# Altium footprint library PcbLib.PcbLib: 28 footprints (part 1 of 2)
Each footprint in its own frame and in the unit in brackets; x right, y up, seen from the top. Pads: shape width x height; smd on the part's side, far side on the other; paste and mask are expansions set on the pad; w line width, h text height; cw(c..) or ccw(c..) is an arc to the next point about the centre after c.
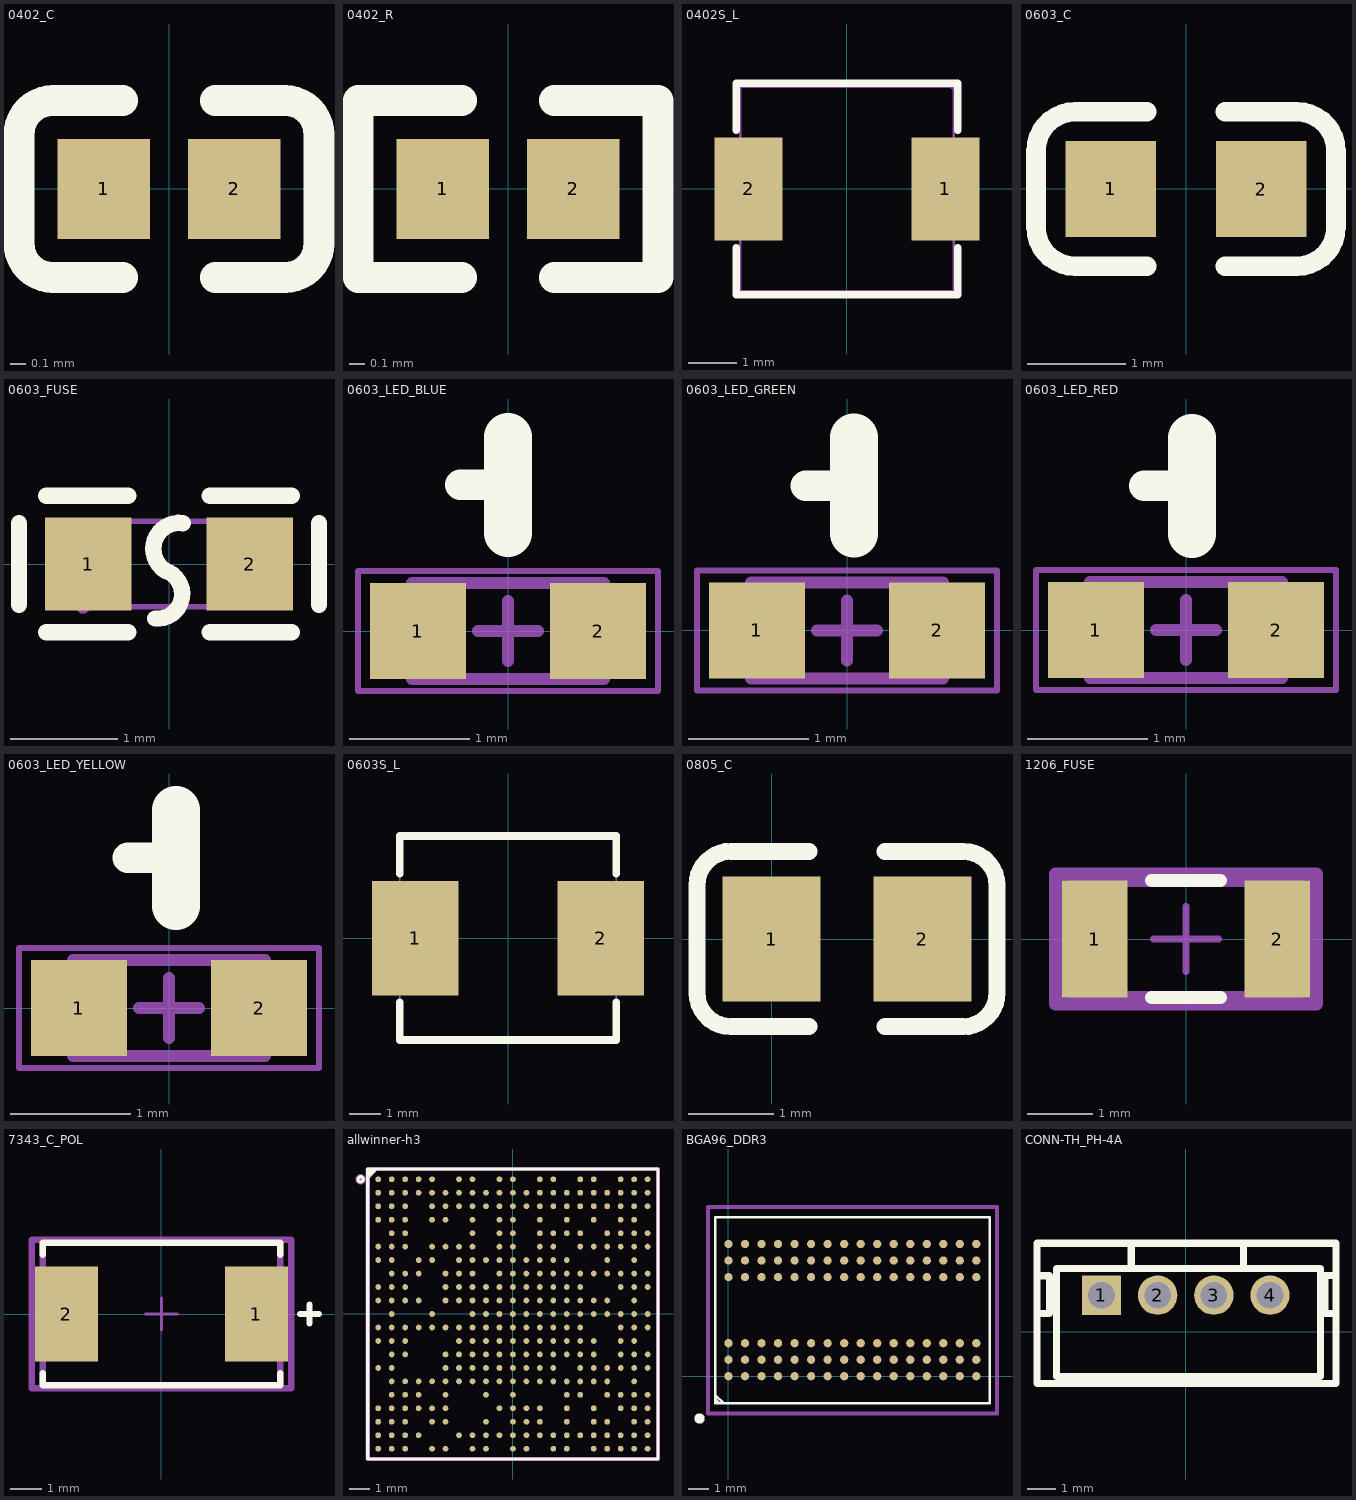
[diagram p0: the footprints below, top view; thin cyan lines are the x and y axes]

## 0402_C [mm]
pads (2):
  rect 0.6x0.65 smd mask+0.051: 1(-0.425,0) 2(0.425,0)
Top Overlay:
  lines w0.2: -0.755,-0.575 cw(c-0.755,-0.355) -0.975,-0.355 -0.975,0.355 cw(c-0.755,0.355) -0.755,0.575 ; -0.75,-0.575 -0.3,-0.575 ; -0.75,0.575 -0.3,0.575 ; 0.3,-0.575 0.75,-0.575 ; 0.3,0.575 0.75,0.575 ; 0.755,-0.575 ccw(c0.755,-0.355) 0.975,-0.355 0.975,0.355 ccw(c0.755,0.355) 0.755,0.575
3D body "capacitor-smd-0402.step": height 0.2, standoff 0, extent -0.483,-0.3 0.517,0.3

## 0402_R [mm]
pads (2):
  rect 0.6x0.65 smd mask+0.051: 1(-0.425,0) 2(0.425,0)
Top Overlay:
  lines w0.2: -0.3,-0.575 -0.975,-0.575 -0.975,0.575 -0.3,0.575 ; 0.3,-0.575 0.975,-0.575 0.975,0.575 0.3,0.575
3D body "resistor-smd-0402.step": height 0.41, standoff 0, extent -0.575,-0.275 0.575,0.275

## 0402S_L [mil]
pads (2):
  rect 55.1x83.5 smd mask+2: 1(79.8,0) 2(-79.8,0)
Top Overlay:
  lines w6: -89.6,-47.7 -89.6,-85.7 89.6,-85.7 89.6,-47.7 ; -89.6,47.7 -89.6,85.7 89.6,85.7 89.6,47.7
Mechanical 15:
  region: 89,82.7 89,83.69 87.59,85.1 85.61,85.1 84.2,83.69 84.2,82.7 84.2,81.71 85.61,80.3 87.59,80.3 89,81.71
  region: -86.6,-33.5 -86.6,33.5 -55.1,33.5 -55.1,-33.5
  region: 86.6,-33.5 86.6,33.5 55.1,33.5 55.1,-33.5
  lines w2: -86.6,-82.7 -86.6,82.7 86.6,82.7 86.6,-82.7 -86.6,-82.7

## 0603_C [mm]
pads (2):
  rect 0.93x0.98 smd: 1(-0.77,0) 2(0.77,0)
Top Overlay:
  lines w0.2: -0.4,-0.79 -1.135,-0.79 cw(c-1.135,-0.39) -1.535,-0.39 -1.535,0.39 cw(c-1.135,0.39) -1.135,0.79 -0.4,0.79 ; 0.4,-0.79 1.135,-0.79 ccw(c1.135,-0.39) 1.535,-0.39 1.535,0.39 ccw(c1.135,0.39) 1.135,0.79 0.4,0.79
3D body "capacitor-smd-0603.step": height 0.3, standoff 0, extent -0.8,-0.4 0.8,0.4

## 0603_FUSE [mm]
pads (2):
  rect 0.806x0.864 smd mask+0.051: 1(-0.753,0) 2(0.753,0)
Top Overlay:
  lines w0.152: -1.397,-0.381 -1.397,0.381 ; -1.143,-0.635 -0.381,-0.635 ; -1.143,0.635 -0.381,0.635 ; -0.127,-0.508 ccw(c-0.107,-0.28) -0.031,-0.063 ; -0.032,-0.064 cw(c0.096,0.142) 0.127,0.381 ; 0.381,-0.635 1.143,-0.635 ; 0.381,0.635 1.143,0.635 ; 1.397,-0.381 1.397,0.381
Top Paste:
  region: -0.315,-0.138 -0.315,0.138 -0.589,0.432 -1.092,0.432 -1.156,0.368 -1.156,-0.368 -1.092,-0.432 -0.589,-0.432
  region: 0.315,-0.138 0.315,0.138 0.589,0.432 1.092,0.432 1.156,0.368 1.156,-0.368 1.092,-0.432 0.589,-0.432
Mechanical 15:
  region: 0.8,-0.4 0.8,0.4 0.5,0.4 0.5,-0.4
  region: -0.8,-0.4 -0.8,0.4 -0.5,0.4 -0.5,-0.4
  region: -0.74,-0.4 -0.74,-0.375 -0.775,-0.34 -0.825,-0.34 -0.86,-0.375 -0.86,-0.4 -0.86,-0.425 -0.825,-0.46 -0.775,-0.46 -0.74,-0.425
  lines w0.051: -0.8,-0.4 0.8,-0.4 0.8,0.4 -0.8,0.4 -0.8,-0.4

## 0603_LED_BLUE [mm] "BLUE,RED,SMD, 2-Leads, Body 1.6x0.8mm"
height 0.85
pads (2):
  rect 0.8x0.8 smd: 1(-0.75,0) 2(0.75,0)
Top Overlay:
  lines w0.254: -0.4,1.221 0,1.221
  lines w0.4: 0,0.821 0,1.621
Mechanical 13:
  lines w0.1: -0.8,-0.4 0.8,-0.4 0.8,0.4 -0.8,0.4 -0.8,-0.4
Mechanical 15:
  lines w0.05: -1.25,-0.5 1.25,-0.5 1.25,0.5 -1.25,0.5 -1.25,-0.5
  lines w0.1: -0.25,0 0.25,0 ; 0,-0.25 0,0.25
3D body: height 0.85, standoff 0, extent -0.5,-0.4 0.5,0.4
3D body: height 0.55, standoff 0, extent -0.8,-0.4 0.8,0.4

## 0603_LED_GREEN [mm] "GREEN,SMD, 2-Leads, Body 1.6x0.8mm"
height 0.85
pads (2):
  rect 0.8x0.8 smd: 1(-0.75,0) 2(0.75,0)
Top Overlay:
  lines w0.254: -0.342,1.205 0.058,1.205
  lines w0.4: 0.058,0.805 0.058,1.605
Mechanical 13:
  lines w0.1: -0.8,-0.4 0.8,-0.4 0.8,0.4 -0.8,0.4 -0.8,-0.4
Mechanical 15:
  lines w0.05: -1.25,-0.5 1.25,-0.5 1.25,0.5 -1.25,0.5 -1.25,-0.5
  lines w0.1: -0.25,0 0.25,0 ; 0,-0.25 0,0.25
3D body: height 0.85, standoff 0, extent -0.5,-0.4 0.5,0.4
3D body: height 0.55, standoff 0, extent -0.8,-0.4 0.8,0.4

## 0603_LED_RED [mm] "RED,SMD, 2-Leads, Body 1.6x0.8mm"
height 0.85
pads (2):
  rect 0.8x0.8 smd: 1(-0.75,0) 2(0.75,0)
Top Overlay:
  lines w0.254: -0.35,1.201 0.05,1.201
  lines w0.4: 0.05,0.801 0.05,1.601
Mechanical 13:
  lines w0.1: -0.8,-0.4 0.8,-0.4 0.8,0.4 -0.8,0.4 -0.8,-0.4
Mechanical 15:
  lines w0.05: -1.25,-0.5 1.25,-0.5 1.25,0.5 -1.25,0.5 -1.25,-0.5
  lines w0.1: -0.25,0 0.25,0 ; 0,-0.25 0,0.25
3D body: height 0.85, standoff 0, extent -0.5,-0.4 0.5,0.4
3D body: height 0.55, standoff 0, extent -0.8,-0.4 0.8,0.4

## 0603_LED_YELLOW [mm] "YELLOW,RED,SMD, 2-Leads, Body 1.6x0.8mm"
height 0.85
pads (2):
  rect 0.8x0.8 smd: 1(-0.75,0) 2(0.75,0)
Top Overlay:
  lines w0.254: -0.343,1.252 0.057,1.252
  lines w0.4: 0.057,0.852 0.057,1.652
Mechanical 13:
  lines w0.1: -0.8,-0.4 -0.8,0.4 0.8,0.4 0.8,-0.4 -0.8,-0.4
Mechanical 15:
  lines w0.05: -1.25,-0.5 -1.25,0.5 1.25,0.5 1.25,-0.5 -1.25,-0.5
  lines w0.1: -0.25,0 0.25,0 ; 0,-0.25 0,0.25
3D body: height 0.55, standoff 0, extent -0.8,-0.4 0.8,0.4
3D body: height 0.85, standoff 0, extent -0.5,-0.4 0.5,0.4

## 0603S_L [mm]
pads (2):
  rect 2.799x3.701 smd mask+0.051: 1(-3,0) 2(3,0)
Top Overlay:
  lines w0.254: -3.5,-2.08 -3.5,-3.299 -3.49,-3.299 3.5,-3.299 3.5,-2.08 ; -3.5,2.08 -3.5,3.299 3.48,3.299 3.5,3.279 ; 3.5,2.08 3.5,3.299
Mechanical 15:
  region: -1.9,-1.501 -3.5,-1.501 -3.5,1.501 -1.9,1.501
  region: 1.9,1.501 3.5,1.501 3.5,-1.501 1.9,-1.501
  region: -3.439,-3.299 -3.439,-3.274 -3.475,-3.238 -3.525,-3.238 -3.561,-3.274 -3.561,-3.299 -3.561,-3.325 -3.525,-3.36 -3.475,-3.36 -3.439,-3.325
  lines w0.051: -3.5,-3.299 3.5,-3.299 3.5,3.299 -3.5,3.299 -3.5,-3.299

## 0805_C [mm]
pads (2):
  rect 1.16x1.47 smd: 1(0,0) 2(1.78,0)
Top Overlay:
  lines w0.2: 0.44,-1.035 -0.48,-1.035 cw(c-0.48,-0.635) -0.88,-0.635 -0.88,0.635 cw(c-0.48,0.635) -0.48,1.035 0.44,1.035 ; 1.34,-1.035 2.26,-1.035 ccw(c2.26,-0.635) 2.66,-0.635 2.66,0.635 ccw(c2.26,0.635) 2.26,1.035 1.34,1.035
3D body "capacitor-smd-0805.step": height 0.77, standoff -0.01, extent -0.109,-0.625 1.891,0.625

## 1206_FUSE [mm]
pads (2):
  rect 1x1.8 smd paste+0 mask+0: 1(-1.4,0) 2(1.4,0)
Top Overlay:
  lines w0.2: -0.525,-0.9 0.525,-0.9 ; -0.525,0.9 0.525,0.9
Top Assembly:
  lines w0.2: -2,-1 -2,1 2,1 2,-1 -2,-1
Top 3D Body:
  lines w0.2: -1.7,-0.9 -1.7,0.9 1.7,0.9 1.7,-0.9 -1.7,-0.9
Top Courtyard:
  lines w0.2: -2,-1 -2,1 2,1 2,-1 -2,-1
Top Component Center:
  lines w0.1: -0.5,0 0.5,0 ; 0,-0.5 0,0.5
3D body "fuse.step": height 1.25, standoff 0, extent -1.6,-0.825 1.6,0.825

## 7343_C_POL [mm]
pads (2):
  rect 2x3 smd paste+0 mask+0: 1(3,0) 2(-3,0)
Top Overlay:
  lines w0.2: -3.75,-1.875 -3.75,-2.25 3.75,-2.25 3.75,-1.875 ; -3.75,1.875 -3.75,2.25 3.75,2.25 3.75,1.875 ; 4.375,0 4.975,0 ; 4.675,-0.3 4.675,0.3
Top Assembly:
  lines w0.2: -4.1,-2.35 4.1,-2.35 4.1,2.35 -4.1,2.35 -4.1,-2.35
Top 3D Body:
  lines w0.2: -3.75,-2.25 3.75,-2.25 3.75,2.25 -3.75,2.25 -3.75,-2.25
Top Courtyard:
  lines w0.2: -4.1,-2.35 4.1,-2.35 4.1,2.35 -4.1,2.35 -4.1,-2.35
Top Component Center:
  lines w0.1: -0.5,0 0.5,0 ; 0,-0.5 0,0.5
3D body "capacitor-smd-7343.step": height 4.3, standoff 0, extent -3.65,-2.15 3.65,2.15

## allwinner-h3 [mil]
pads (347):
  round 11 smd: A1(-255.9,255.9) A2(-230.3,255.9) A3(-204.7,255.89) A4(-179.1,255.9) A5(-153.5,255.9) A7(-102.4,255.9) A8(-76.8,255.89) A10(-25.6,255.9) A11(0,255.9) A13(51.2,255.89) A14(76.8,255.89) A16(128,255.9) A17(153.5,255.9) A19(204.7,255.89) A20(230.3,255.9) A21(255.9,255.9) AA1(-255.9,-255.9) AA2(-230.3,-255.9) AA3(-204.7,-255.89) AA5(-153.5,-255.9) AA6(-128,-255.9) AA8(-76.8,-255.89) AA9(-51.2,-255.89) AA11(0,-255.9) AA12(25.6,-255.9) AA14(76.8,-255.89) AA15(102.4,-255.9) AA17(153.5,-255.9) AA18(179.1,-255.9) AA19(204.7,-255.89) AA20(230.3,-255.9) AA21(255.9,-255.9) B1(-255.9,230.3) B2(-230.3,230.3) B3(-204.7,230.3) B4(-179.1,230.3) B5(-153.5,230.3) B6(-128,230.3) B7(-102.4,230.3) B8(-76.8,230.3) B9(-51.2,230.3) B10(-25.6,230.3) B11(0,230.3) B12(25.6,230.3) B13(51.2,230.3) B14(76.8,230.3) B15(102.4,230.3) B16(128,230.3) B17(153.5,230.3) B18(179.1,230.3) B19(204.7,230.3) B20(230.3,230.3) B21(255.9,230.3) C1(-255.9,204.7) C2(-230.3,204.7) C3(-204.7,204.7) C5(-153.51,204.7) C6(-127.99,204.7) C7(-102.4,204.7) C8(-76.8,204.7) C9(-51.2,204.7) C10(-25.6,204.7) C11(0,204.69) C12(25.6,204.7) C13(51.2,204.7) C14(76.8,204.7) C15(102.4,204.7) C16(127.99,204.7) C17(153.51,204.7) C18(179.1,204.7) C19(204.7,204.7) C20(230.3,204.7) C21(255.89,204.7) D1(-255.9,179.1) D2(-230.3,179.1) D3(-204.7,179.1) D5(-153.5,179.1) D6(-128,179.1) D8(-76.8,179.1) D10(-25.6,179.1) D11(0,179.1) D13(51.2,179.1) D15(102.4,179.1) D17(153.5,179.1) D19(204.7,179.1) D20(230.3,179.1) E2(-230.3,153.5) E3(-204.7,153.51) E8(-76.8,153.51) E10(-25.6,153.5) E11(0,153.5) E13(51.19,153.5) E14(76.8,153.51) E15(102.4,153.5) E16(128,153.5) E18(179.1,153.5) E19(204.7,153.51) E20(230.3,153.5) E21(255.9,153.5) F1(-255.9,128) F2(-230.3,128) F3(-204.7,127.99) F5(-153.5,128) F6(-128,128) F7(-102.4,128) F8(-76.81,128) F10(-25.6,128) F11(0,128) F13(51.19,128) F14(76.81,128) F16(128,128) F17(153.5,128) F18(179.1,128) F19(204.7,127.99) F20(230.3,128) F21(255.9,128) G1(-255.9,102.4) G2(-230.3,102.4) G4(-179.1,102.4) G5(-153.5,102.4) G7(-102.4,102.4) G8(-76.8,102.4) G9(-51.2,102.4) G10(-25.6,102.4) G11(0,102.4) G12(25.6,102.4) G13(51.2,102.4) G14(76.8,102.4) G15(102.4,102.4) G18(179.1,102.4) G20(230.3,102.4) H2(-230.3,76.8) H3(-204.7,76.8) H4(-179.1,76.8) H6(-128,76.81) H7(-102.4,76.8) H8(-76.8,76.8) H10(-25.6,76.8) H11(0,76.81) H12(25.6,76.8) H13(51.2,76.8) H14(76.8,76.8) H15(102.4,76.8) H16(128,76.81) H17(153.51,76.8) H18(179.1,76.8) H19(204.7,76.8) H20(230.3,76.8) H21(255.89,76.8) J1(-255.9,51.2) J2(-230.3,51.2) J3(-204.7,51.2) J6(-128,51.19) J7(-102.4,51.2) J8(-76.8,51.2) J9(-51.2,51.2) J10(-25.6,51.2) J11(0,51.19) J12(25.6,51.2) J13(51.2,51.2) J14(76.8,51.2) J15(102.4,51.2) J16(128,51.19) J19(204.7,51.2) J20(230.3,51.2) J21(255.9,51.2) K1(-255.9,25.6) K2(-230.3,25.6) K3(-204.7,25.6) K4(-179.1,25.6) K6(-128,25.6) K7(-102.4,25.6) K8(-76.8,25.6) K9(-51.2,25.6) K10(-25.6,25.6) K11(0,25.6) K12(25.6,25.6) K13(51.2,25.6) K14(76.8,25.6) K15(102.4,25.6) K16(128,25.6) K17(153.5,25.6) K18(179.1,25.6) K20(230.3,25.6) L2(-230.3,0) L5(-153.5,0) L8(-76.81,0) L9(-51.19,0) L10(-25.6,0) L11(0,0) L12(25.6,0) L13(51.19,0) L14(76.81,0) L15(102.4,0) L16(128,0) L17(153.5,0) L18(179.1,0) L19(204.69,0) L20(230.3,0) L21(255.9,0) M1(-255.9,-25.6) M2(-230.3,-25.6) M3(-204.7,-25.6) M4(-179.1,-25.6) M5(-153.5,-25.6) M6(-128,-25.6) M7(-102.4,-25.6) M8(-76.8,-25.6) M9(-51.2,-25.6) M10(-25.6,-25.6) M11(0,-25.6) M12(25.6,-25.6) M13(51.2,-25.6) M14(76.8,-25.6) M15(102.4,-25.6) M16(128,-25.6) M19(204.7,-25.6) M20(230.3,-25.6) M21(255.9,-25.6) N1(-255.9,-51.2) N2(-230.3,-51.2) N3(-204.7,-51.2) N7(-102.4,-51.2) N8(-76.8,-51.2) N9(-51.2,-51.2) N10(-25.6,-51.2) N11(0,-51.19) N12(25.6,-51.2) N13(51.2,-51.2) N14(76.8,-51.2) N15(102.4,-51.2) N16(128,-51.19) N17(153.5,-51.19) N19(204.7,-51.2) N20(230.3,-51.2) P2(-230.3,-76.8) P3(-204.7,-76.8) P6(-128,-76.81) P7(-102.4,-76.8) P8(-76.8,-76.8) P9(-51.2,-76.8) P10(-25.6,-76.8) P11(0,-76.81) P12(25.6,-76.8) P13(51.2,-76.8) P14(76.8,-76.8) P15(102.4,-76.8) P16(128,-76.81) P17(153.51,-76.8) P19(204.7,-76.8) P20(230.3,-76.8) P21(255.89,-76.8) R1(-255.9,-102.4) R2(-230.3,-102.4) R6(-128,-102.4) R7(-102.4,-102.4) R8(-76.8,-102.4) R9(-51.2,-102.4) R10(-25.6,-102.4) R11(0,-102.4) R12(25.6,-102.4) R13(51.2,-102.4) R14(76.8,-102.4) R16(128,-102.4) R17(153.5,-102.4) R18(179.1,-102.4) R19(204.7,-102.4) R20(230.3,-102.4) R21(255.9,-102.4) T2(-230.3,-128) T3(-204.7,-127.99) T4(-179.1,-128) T5(-153.5,-128) T6(-128,-128) T7(-102.4,-128) T8(-76.81,-128) T9(-51.19,-128) T10(-25.6,-128) T11(0,-128) T12(25.6,-128) T13(51.19,-128) T14(76.81,-128) T15(102.4,-128) T16(128,-128) T17(153.5,-128) T18(179.1,-128) T20(230.3,-128) U2(-230.3,-153.5) U3(-204.7,-153.51) U4(-179.1,-153.5) U6(-128,-153.5) U9(-51.19,-153.5) U11(0,-153.5) U15(102.4,-153.5) U16(128,-153.5) U18(179.1,-153.5) U19(204.7,-153.51) U20(230.3,-153.5) U21(255.9,-153.5) V1(-255.9,-179.1) V2(-230.3,-179.1) V3(-204.7,-179.1) V4(-179.1,-179.1) V5(-153.5,-179.1) V6(-128,-179.1) V10(-25.6,-179.1) V11(0,-179.1) V12(25.6,-179.1) V13(51.2,-179.1) V15(102.4,-179.1) V17(153.5,-179.1) V19(204.7,-179.1) V20(230.3,-179.1) V21(255.9,-179.1) W1(-255.89,-204.7) W2(-230.3,-204.7) W3(-204.7,-204.7) W5(-153.51,-204.7) W6(-127.99,-204.7) W9(-51.2,-204.7) W11(0,-204.69) W12(25.6,-204.7) W13(51.2,-204.7) W15(102.4,-204.7) W17(153.51,-204.7) W18(179.1,-204.7) W20(230.3,-204.7) W21(255.89,-204.7) Y1(-255.9,-230.3) Y2(-230.3,-230.3) Y3(-204.7,-230.3) Y4(-179.1,-230.3) Y7(-102.4,-230.3) Y8(-76.8,-230.3) Y9(-51.2,-230.3) Y10(-25.6,-230.3) Y11(0,-230.3) Y12(25.6,-230.3) Y13(51.2,-230.3) Y14(76.8,-230.3) Y15(102.4,-230.3) Y16(128,-230.3) Y17(153.5,-230.3) Y18(179.1,-230.3) Y19(204.7,-230.3) Y20(230.3,-230.3) Y21(255.9,-230.3)
Top Overlay:
  circle w6: c-289.34,255.88 r4.93
  lines w6: -275.63,259.79 -259.79,275.63 ; -275.63,267.71 -267.71,275.63 ; -275.63,-275.63 -275.63,275.63 275.56,275.56 275.63,-275.63 -275.63,-275.63
Mechanical 112:
  circle w9.8: c-289.34,255.88 r4.93
  lines w7.9: -275.63,259.79 -259.79,275.63 ; -275.63,267.71 -267.71,275.63 ; -275.63,-275.63 -275.63,275.63 275.56,275.56 275.63,-275.63 -275.63,-275.63
Mechanical 113:
  lines w7.9: -275.63,259.79 -259.79,275.63 ; -275.63,267.71 -267.71,275.63 ; -275.63,-275.63 -275.63,275.63 275.56,275.56 275.63,-275.63 -275.63,-275.63
3D body: height 47.24, standoff 0, extent -275.63,-275.06 275.03,275.63

## BGA96_DDR3 [mm]
pads (96):
  round 0.4 smd: A1(0,0) A2(0,0.8) A3(0,1.6) A7(0,4.8) A8(0,5.6) A9(0,6.4) B1(0.8,0) B2(0.8,0.8) B3(0.8,1.6) B7(0.8,4.8) B8(0.8,5.6) B9(0.8,6.4) C1(1.6,0) C2(1.6,0.8) C3(1.6,1.6) C7(1.6,4.8) C8(1.6,5.6) C9(1.6,6.4) D1(2.4,0) D2(2.4,0.8) D3(2.4,1.6) D7(2.4,4.8) D8(2.4,5.6) D9(2.4,6.4) E1(3.2,0) E2(3.2,0.8) E3(3.2,1.6) E7(3.2,4.8) E8(3.2,5.6) E9(3.2,6.4) F1(4,0) F2(4,0.8) F3(4,1.6) F7(4,4.8) F8(4,5.6) F9(4,6.4) G1(4.8,0) G2(4.8,0.8) G3(4.8,1.6) G7(4.8,4.8) G8(4.8,5.6) G9(4.8,6.4) H1(5.6,0) H2(5.6,0.8) H3(5.6,1.6) H7(5.6,4.8) H8(5.6,5.6) H9(5.6,6.4) J1(6.4,0) J2(6.4,0.8) J3(6.4,1.6) J7(6.4,4.8) J8(6.4,5.6) J9(6.4,6.4) K1(7.2,0) K2(7.2,0.8) K3(7.2,1.6) K7(7.2,4.8) K8(7.2,5.6) K9(7.2,6.4) L1(8,0) L2(8,0.8) L3(8,1.6) L7(8,4.8) L8(8,5.6) L9(8,6.4) M1(8.8,0) M2(8.8,0.8) M3(8.8,1.6) M7(8.8,4.8) M8(8.8,5.6) M9(8.8,6.4) N1(9.6,0) N2(9.6,0.8) N3(9.6,1.6) N7(9.6,4.8) N8(9.6,5.6) N9(9.6,6.4) P1(10.4,0) P2(10.4,0.8) P3(10.4,1.6) P7(10.4,4.8) P8(10.4,5.6) P9(10.4,6.4) R1(11.2,0) R2(11.2,0.8) R3(11.2,1.6) R7(11.2,4.8) R8(11.2,5.6) R9(11.2,6.4) T1(12,0) T2(12,0.8) T3(12,1.6) T7(12,4.8) T8(12,5.6) T9(12,6.4)
Top Overlay:
  circle w0.25: c-1.4,-2.05 r0.125
  lines w0.127: -0.65,-1.3 -0.65,7.7 ; -0.65,-1.3 12.65,-1.3 ; -0.65,-1.3 -0.65,7.7 ; -0.65,-1.3 12.65,-1.3 ; -0.65,7.7 12.65,7.7 ; -0.65,7.7 12.65,7.7 ; -0.45,-1.3 -0.65,-1.1 -0.45,-1.3 ; -0.45,-1.3 -0.25,-1.3 ; -0.45,-1.3 -0.25,-1.3 ; -0.25,-1.3 -0.65,-0.9 -0.25,-1.3 ; 12.65,-1.3 12.65,7.7 ; 12.65,-1.3 12.65,7.7
Mechanical 111:
  lines w0.2: -1,-1.8 -1,8.2 13,8.2 13,-1.8 -1,-1.8

## CONN-TH_PH-4A [mm]
pads (4):
  rect 1.4x1.4 hole 0.95 mask+0.051: 1(-2.998,1.299)
  round 1.4 hole 0.95 mask+0.051: 2(-0.999,1.299) 3(1.002,1.299) 4(3.001,1.299)
Top Overlay:
  lines w0.254: -5.3,0.649 -4.847,0.649 -4.847,1.99 -5.3,1.99 ; -5.3,2.998 -5.3,3.148 5.351,3.148 5.351,-1.851 -5.3,-1.851 -5.3,3.1 ; -1.937,2.249 -1.937,3.148 ; 2.056,2.249 2.056,3.148 ; 4.802,1.949 4.802,2.249 -4.598,2.249 -4.598,-1.602 4.802,-1.602 4.802,2.15 ; 5.351,0.649 4.952,0.649 4.952,1.997 5.351,1.997
Mechanical 15:
  region: -5.208,-1.828 -5.208,-1.803 -5.244,-1.767 -5.294,-1.767 -5.33,-1.803 -5.33,-1.828 -5.33,-1.853 -5.294,-1.889 -5.244,-1.889 -5.208,-1.853
  region: -2.622,1.299 -2.622,1.374 -2.68,1.512 -2.785,1.618 -2.924,1.675 -3.073,1.675 -3.211,1.618 -3.317,1.512 -3.374,1.374 -3.374,1.299 -3.374,1.224 -3.317,1.086 -3.211,0.98 -3.073,0.923 -2.924,0.923 -2.785,0.98 -2.68,1.086 -2.622,1.224
  region: -0.623,1.299 -0.623,1.374 -0.681,1.512 -0.786,1.618 -0.925,1.675 -1.074,1.675 -1.212,1.618 -1.318,1.512 -1.375,1.374 -1.375,1.299 -1.375,1.224 -1.318,1.086 -1.212,0.98 -1.074,0.923 -0.925,0.923 -0.786,0.98 -0.681,1.086 -0.623,1.224
  region: 1.378,1.299 1.378,1.374 1.321,1.512 1.215,1.618 1.077,1.675 0.927,1.675 0.789,1.618 0.684,1.512 0.626,1.374 0.626,1.299 0.626,1.224 0.684,1.086 0.789,0.98 0.927,0.923 1.077,0.923 1.215,0.98 1.321,1.086 1.378,1.224
  region: 3.377,1.299 3.377,1.374 3.32,1.512 3.214,1.618 3.076,1.675 2.926,1.675 2.788,1.618 2.682,1.512 2.625,1.374 2.625,1.299 2.625,1.224 2.682,1.086 2.788,0.98 2.926,0.923 3.076,0.923 3.214,0.98 3.32,1.086 3.377,1.224
  lines w0.051: -5.269,-1.828 5.335,-1.828 5.335,3.125 -5.269,3.125 -5.269,-1.828